# Altium schematic symbol library AMC1306M25.SchLib: 1 symbol
Pins are listed as number, name and electrical type; pins without a type are passive.

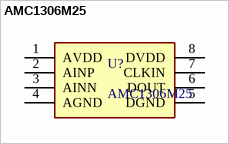
[diagram p0: symbol AMC1306M25]

## AMC1306M25
designator U?
footprint FP-DWV0008A-MFG
footprint FP-DWV0008A-IPC_A
footprint FP-DWV0008A-IPC_B
footprint FP-DWV0008A-IPC_C
pins: 1 AVDD, 2 AINP, 3 AINN, 4 AGND, 5 DGND, 6 DOUT, 7 CLKIN, 8 DVDD